# EAGLE library part VL53L0X (library BottleSumo Library v104)
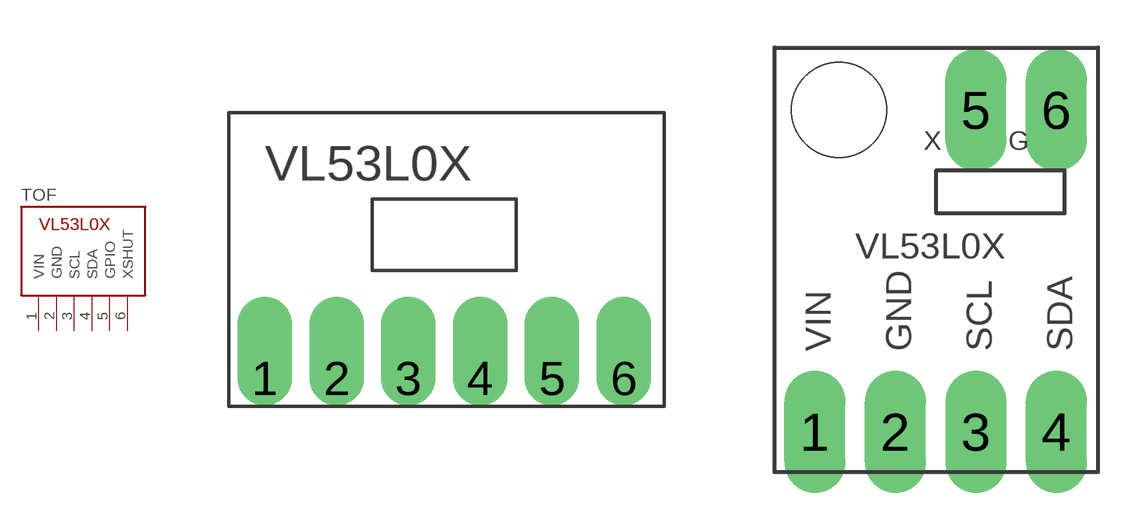
[diagram p8: symbol with the pads of VL53L0X; footprints VL53L0X, VL53L0X-2]

Designator prefix TOF

## VL53L0XRECTANGLE  [VL53L0X]
1  VIN
2  GND
3  SCL
4  SDA
5  GPIO
6  XSHUT

## VL53L0XSQUARE  [VL53L0X-2]
1  VIN
2  GND
3  SCL
4  SDA
5  XSHUT
6  GPIO

## Footprint VL53L0X (pad centres in mm)
drill 1 pad 1.93 offset: 1 0,-0.013; 2 2.54,-0.013; 3 5.08,-0.013; 4 7.62,-0.013; 5 10.16,-0.013; 6 12.7,-0.013

## Footprint VL53L0X-2 (pad centres in mm)
drill 1 pad 1.93 long: 1 1.27,1.27; 2 3.81,1.27; 3 6.35,1.27; 4 8.89,1.27; 5 6.35,11.43; 6 8.89,11.43
hole 3 at 2.032,11.43